# EAGLE library part SKY65111-348LF (library RF Amplifier)
IC AMP ISM 600MHZ-1.1GHZ 16QFN Manufacturer's datasheet <https://www.skyworksinc.com/-/media/SkyWorks/Documents/Products/101-200/200428E.pdf>
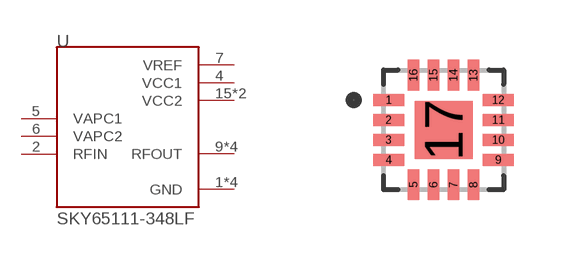
[diagram p1: symbol with the pads of SKY65111-348LF; footprint SKY65111-348LF]

Designator prefix U

## SKY65111-348LF (CREATED_BY: PCBLayout.com; DIGIKEY_PARTNO: 863-1071-1-ND; MANUFACTURER: Skyworks Solutions Inc.; MPN: SKY65111-348LF; PACKAGE: QFN-16)  [SKY65111-348LF]
1  GND  pwr
2  RFIN  in
3  GND  pwr
4  VCC1  pwr
5  VAPC1  in
6  VAPC2  in
7  VREF  pwr
8  GND  pwr
9  RFOUT  out
10  RFOUT  out
11  RFOUT  out
12  RFOUT  out
14  GND  pwr
15  VCC2  pwr
16  VCC2  pwr

## Footprint SKY65111-348LF (pad centres in mm)
smd 0.77 x 0.29: 1 -1.37,0.75; 2 -1.37,0.25; 3 -1.37,-0.25; 4 -1.37,-0.75; 9 1.37,-0.75; 10 1.37,-0.25; 11 1.37,0.25; 12 1.37,0.75
smd 0.29 x 0.77: 5 -0.75,-1.37; 6 -0.25,-1.37; 7 0.25,-1.37; 8 0.75,-1.37; 13 0.75,1.37; 14 0.25,1.37; 15 -0.25,1.37; 16 -0.75,1.37
smd 1.45 x 1.45: 17 0,0